# EAGLE library part S-DMA (library F030NG)
DMA / Atari C302996-001
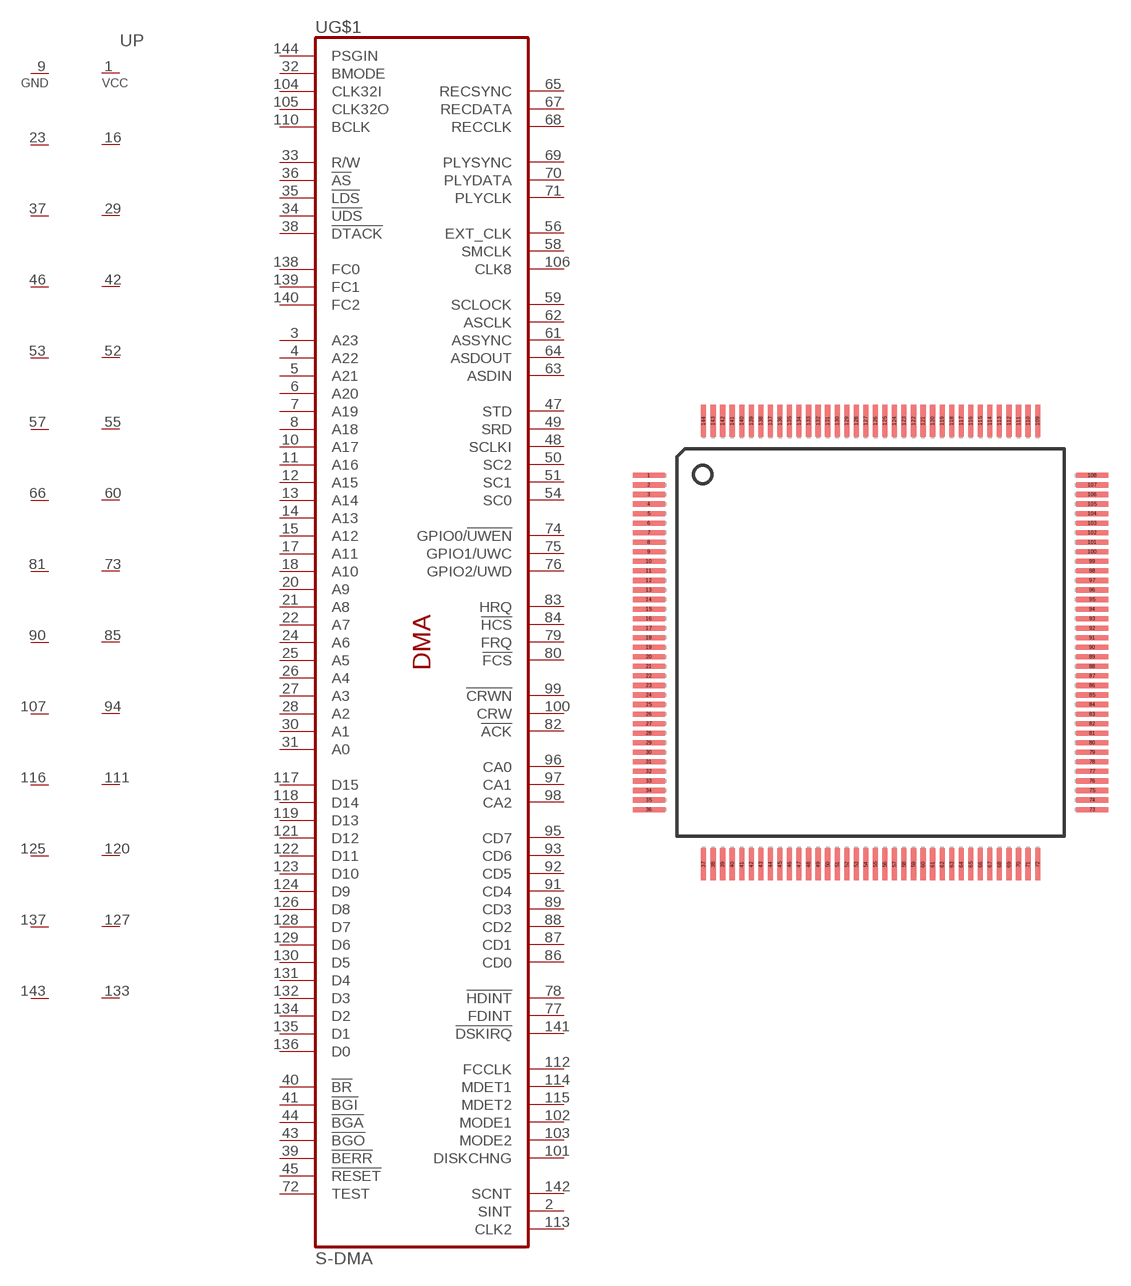
[diagram p24: symbol with the pads of CQFP144; footprint CQFP144]

Designator prefix U; gates G$1=DMA P=14VCC_14GND

## S-DMA  [CQFP144]
1  P:VCC  pwr
2  G$1:SINT  out
3  G$1:A23
4  G$1:A22
5  G$1:A21
6  G$1:A20
7  G$1:A19
8  G$1:A18
9  P:GND  pwr
10  G$1:A17
11  G$1:A16
12  G$1:A15
13  G$1:A14
14  G$1:A13
15  G$1:A12
16  P:VCC  pwr
17  G$1:A11
18  G$1:A10
20  G$1:A9
21  G$1:A8
22  G$1:A7
23  P:GND  pwr
24  G$1:A6
25  G$1:A5
26  G$1:A4
27  G$1:A3
28  G$1:A2
29  P:VCC  pwr
30  G$1:A1
31  G$1:A0
32  G$1:BMODE  in
33  G$1:R/W
34  G$1:!UDS
35  G$1:!LDS
36  G$1:!AS
37  P:GND  pwr
38  G$1:!DTACK
39  G$1:!BERR  in
40  G$1:!BR  out
41  G$1:!BGI  in
42  P:VCC  pwr
43  G$1:!BGO  out
44  G$1:!BGA
45  G$1:!RESET  in
46  P:GND  pwr
47  G$1:STD  in
48  G$1:SCLKI  in
49  G$1:SRD  in
50  G$1:SC2  in
51  G$1:SC1  in
52  P:VCC  pwr
53  P:GND  pwr
54  G$1:SC0  in
55  P:VCC  pwr
56  G$1:EXT_CLK  in
57  P:GND  pwr
58  G$1:SMCLK  in
59  G$1:SCLOCK  out
60  P:VCC  pwr
61  G$1:ASSYNC  out
62  G$1:ASCLK  out
63  G$1:ASDIN  in
64  G$1:ASDOUT  out
65  G$1:RECSYNC
66  P:GND  pwr
67  G$1:RECDATA  in
68  G$1:RECCLK  out
69  G$1:PLYSYNC
70  G$1:PLYDATA  out
71  G$1:PLYCLK  out
72  G$1:TEST  pas
73  P:VCC  pwr
74  G$1:GPIO0/!UWEN  out
75  G$1:GPIO1/UWC  out
76  G$1:GPIO2/UWD  out
77  G$1:FDINT  in
78  G$1:!HDINT  in
79  G$1:FRQ  in
80  G$1:!FCS  out
81  P:GND  pwr
82  G$1:!ACK  out
83  G$1:HRQ  in
84  G$1:!HCS  out
85  P:VCC  pwr
86  G$1:CD0
87  G$1:CD1
88  G$1:CD2
89  G$1:CD3
90  P:GND  pwr
91  G$1:CD4
92  G$1:CD5
93  G$1:CD6
94  P:VCC  pwr
95  G$1:CD7
96  G$1:CA0  out
97  G$1:CA1  out
98  G$1:CA2  out
99  G$1:!CRWN  out
100  G$1:CRW  out
101  G$1:DISKCHNG  in
102  G$1:MODE1  out
103  G$1:MODE2  out
104  G$1:CLK32I  in
105  G$1:CLK32O  out
106  G$1:CLK8  in
107  P:GND  pwr
110  G$1:BCLK  in
111  P:VCC  pwr
112  G$1:FCCLK  out
113  G$1:CLK2  in
114  G$1:MDET1  in
115  G$1:MDET2  in
116  P:GND  pwr
117  G$1:D15
118  G$1:D14
119  G$1:D13
120  P:VCC  pwr
121  G$1:D12
122  G$1:D11
123  G$1:D10
124  G$1:D9
125  P:GND  pwr
126  G$1:D8
127  P:VCC  pwr
128  G$1:D7
129  G$1:D6
130  G$1:D5
131  G$1:D4
132  G$1:D3
133  P:VCC  pwr
134  G$1:D2
135  G$1:D1
136  G$1:D0
137  P:GND  pwr
138  G$1:FC0
139  G$1:FC1
140  G$1:FC2
141  G$1:!DSKIRQ  out
142  G$1:SCNT  out
143  P:GND  pwr
144  G$1:PSGIN  in

## Footprint CQFP144 (pad centres in mm)
CERAMIC QUAD FLAT PACK mistake in IPC book designed according to MQFP-144/Siemens
smd 2.2 x 0.35: 1 -15.1,11.375; 2 -15.1,10.725; 3 -15.1,10.075; 4 -15.1,9.425; 5 -15.1,8.775; 6 -15.1,8.125; 7 -15.1,7.475; 8 -15.1,6.825; 9 -15.1,6.175; 10 -15.1,5.525; 11 -15.1,4.875; 12 -15.1,4.225; 13 -15.1,3.575; 14 -15.1,2.925; 15 -15.1,2.275; 16 -15.1,1.625; 17 -15.1,0.975; 18 -15.1,0.325; 19 -15.1,-0.325; 20 -15.1,-0.975; 21 -15.1,-1.625; 22 -15.1,-2.275; 23 -15.1,-2.925; 24 -15.1,-3.575; 25 -15.1,-4.225; 26 -15.1,-4.875; 27 -15.1,-5.525; 28 -15.1,-6.175; 29 -15.1,-6.825; 30 -15.1,-7.475; 31 -15.1,-8.125; 32 -15.1,-8.775; 33 -15.1,-9.425; 34 -15.1,-10.075; 35 -15.1,-10.725; 36 -15.1,-11.375; 73 15.1,-11.375; 74 15.1,-10.725; 75 15.1,-10.075; 76 15.1,-9.425; 77 15.1,-8.775; 78 15.1,-8.125; 79 15.1,-7.475; 80 15.1,-6.825; 81 15.1,-6.175; 82 15.1,-5.525; 83 15.1,-4.875; 84 15.1,-4.225; 85 15.1,-3.575; 86 15.1,-2.925; 87 15.1,-2.275; 88 15.1,-1.625; 89 15.1,-0.975; 90 15.1,-0.325; 91 15.1,0.325; 92 15.1,0.975; 93 15.1,1.625; 94 15.1,2.275; 95 15.1,2.925; 96 15.1,3.575; 97 15.1,4.225; 98 15.1,4.875; 99 15.1,5.525; 100 15.1,6.175; 101 15.1,6.825; 102 15.1,7.475; 103 15.1,8.125; 104 15.1,8.775; 105 15.1,9.425; 106 15.1,10.075; 107 15.1,10.725; 108 15.1,11.375
smd 0.35 x 2.2: 37 -11.375,-15.1; 38 -10.725,-15.1; 39 -10.075,-15.1; 40 -9.425,-15.1; 41 -8.775,-15.1; 42 -8.125,-15.1; 43 -7.475,-15.1; 44 -6.825,-15.1; 45 -6.175,-15.1; 46 -5.525,-15.1; 47 -4.875,-15.1; 48 -4.225,-15.1; 49 -3.575,-15.1; 50 -2.925,-15.1; 51 -2.275,-15.1; 52 -1.625,-15.1; 53 -0.975,-15.1; 54 -0.325,-15.1; 55 0.325,-15.1; 56 0.975,-15.1; 57 1.625,-15.1; 58 2.275,-15.1; 59 2.925,-15.1; 60 3.575,-15.1; 61 4.225,-15.1; 62 4.875,-15.1; 63 5.525,-15.1; 64 6.175,-15.1; 65 6.825,-15.1; 66 7.475,-15.1; 67 8.125,-15.1; 68 8.775,-15.1; 69 9.425,-15.1; 70 10.075,-15.1; 71 10.725,-15.1; 72 11.375,-15.1; 109 11.375,15.1; 110 10.725,15.1; 111 10.075,15.1; 112 9.425,15.1; 113 8.775,15.1; 114 8.125,15.1; 115 7.475,15.1; 116 6.825,15.1; 117 6.175,15.1; 118 5.525,15.1; 119 4.875,15.1; 120 4.225,15.1; 121 3.575,15.1; 122 2.925,15.1; 123 2.275,15.1; 124 1.625,15.1; 125 0.975,15.1; 126 0.325,15.1; 127 -0.325,15.1; 128 -0.975,15.1; 129 -1.625,15.1; 130 -2.275,15.1; 131 -2.925,15.1; 132 -3.575,15.1; 133 -4.225,15.1; 134 -4.875,15.1; 135 -5.525,15.1; 136 -6.175,15.1; 137 -6.825,15.1; 138 -7.475,15.1; 139 -8.125,15.1; 140 -8.775,15.1; 141 -9.425,15.1; 142 -10.075,15.1; 143 -10.725,15.1; 144 -11.375,15.1